# EAGLE library part TRACO_THL (library 04_IC)
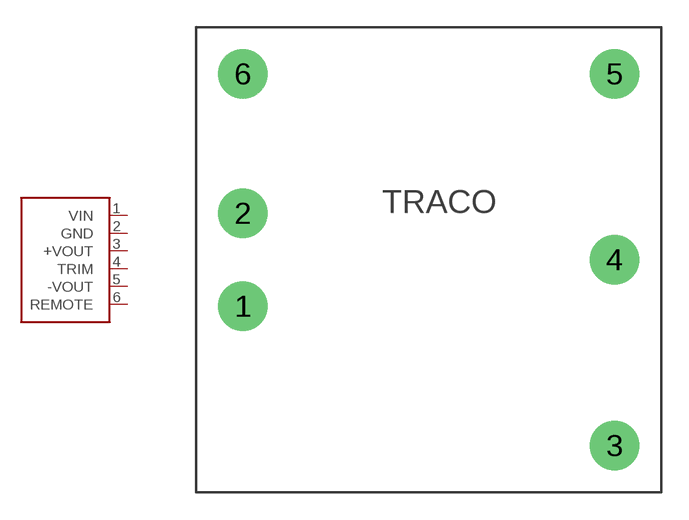
[diagram p13: symbol with the pads of TRACO_THL; footprint TRACO_THL]

Designator prefix -

## TRACO_THL  [TRACO_THL]
1  VIN
2  GND
3  +VOUT
4  TRIM
5  -VOUT
6  REMOTE

## Footprint TRACO_THL (pad centres in mm)
drill 1.8: 1 -10.16,-2.54; 2 -10.16,2.54; 3 10.16,-10.16; 4 10.16,0; 5 10.16,10.16; 6 -10.16,10.16